# Altium footprint library Sampler_DIOT.PcbLib: 109 footprints (part 3 of 7)
Each footprint in its own frame and in the unit in brackets; x right, y up, seen from the top. Pads: shape width x height; smd on the part's side, far side on the other; paste and mask are expansions set on the pad; w line width, h text height; cw(c..) or ccw(c..) is an arc to the next point about the centre after c.
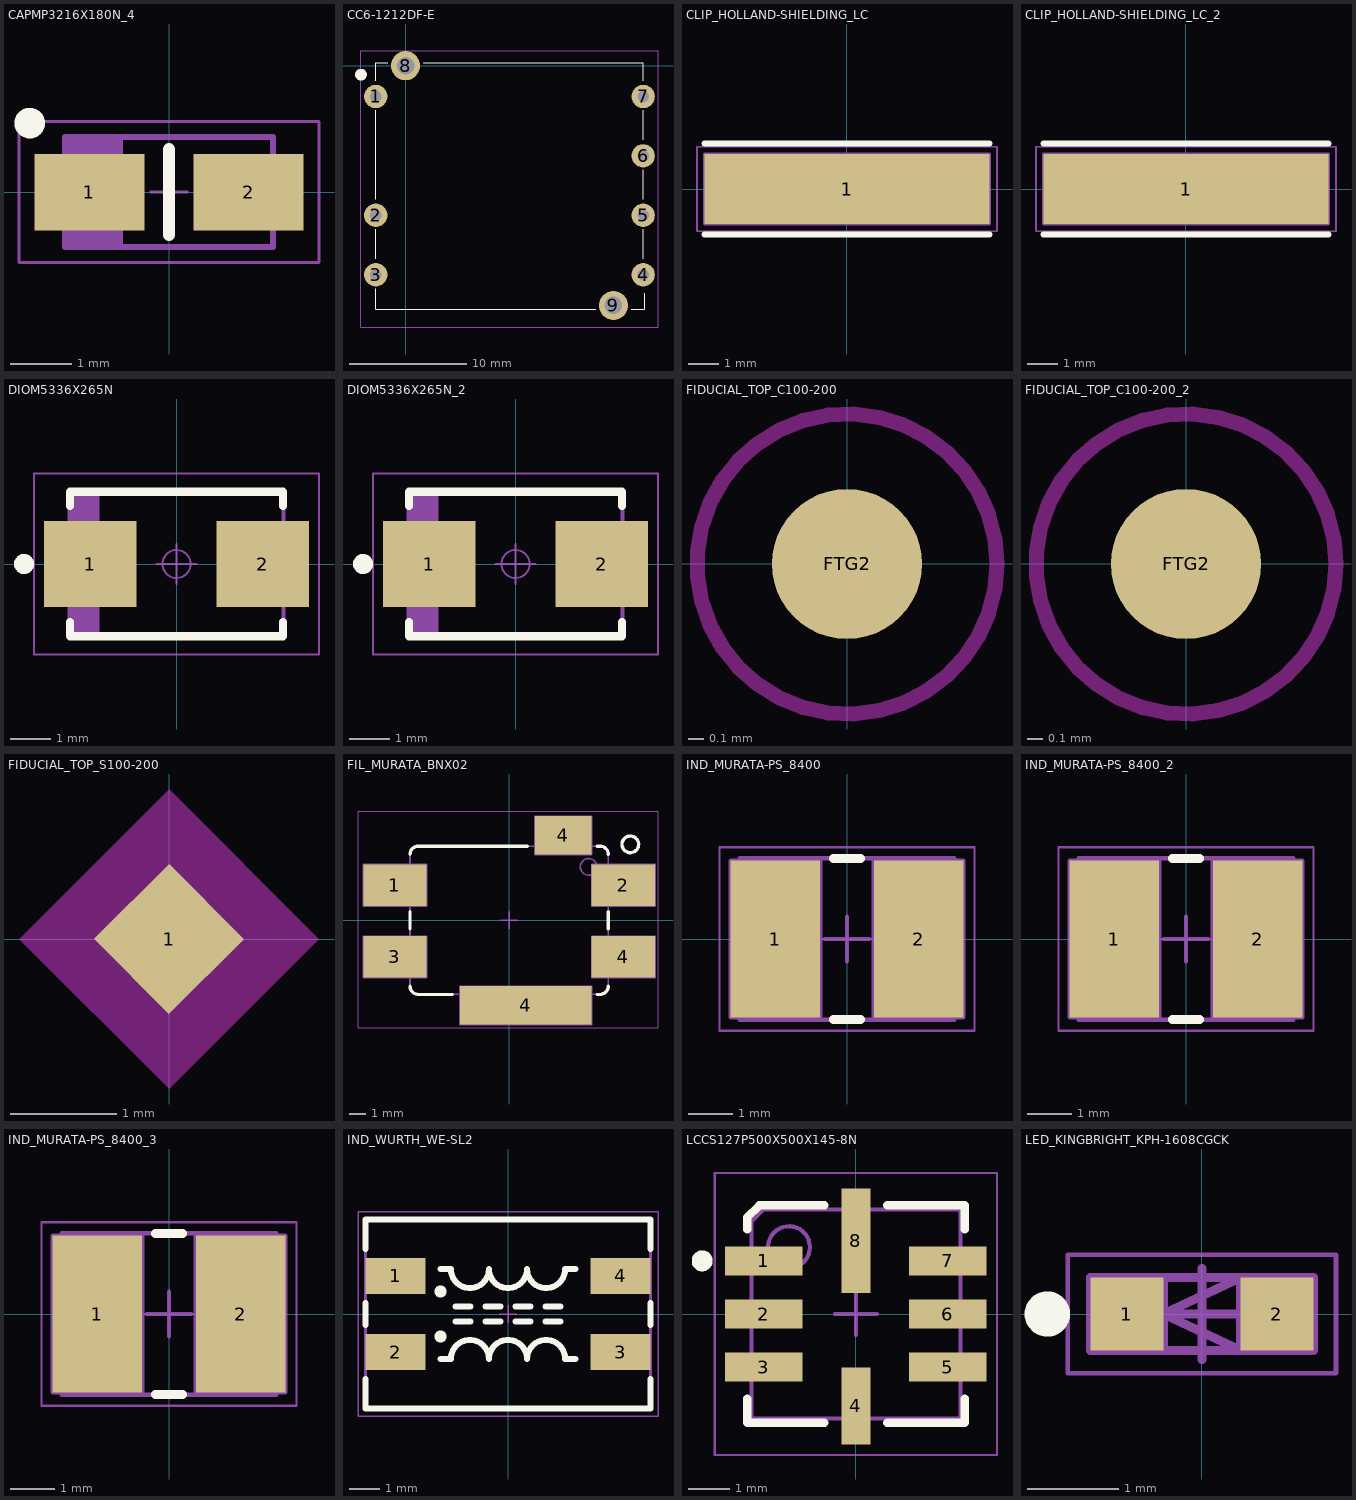
[diagram p2: the footprints below, top view; thin cyan lines are the x and y axes]

## CAPMP3216X180N_4 [mm]
pads (2):
  rect 1.8x1.25 smd: 1(-1.3,0) 2(1.3,0)
Top Overlay:
  circle w0.25: c-2.275,1.125 r0.125
  lines w0.2: 0,-0.7 0,0.7
Top Assembly:
  lines w0.1: -1.625,-0.9 -1.625,0.9 ; -1.55,-0.9 -1.55,0.9 ; -1.475,-0.9 -1.475,0.9 ; -1.4,-0.9 -1.4,0.9 ; -1.325,-0.9 -1.325,0.9 ; -1.25,-0.9 -1.25,0.9 ; -1.175,-0.9 -1.175,0.9 ; -1.1,-0.9 -1.1,0.9 ; -1.025,-0.9 -1.025,0.9 ; -0.95,-0.9 -0.95,0.9 ; -0.875,-0.9 -0.875,0.9 ; -0.8,-0.9 -0.8,0.9 ; -1.7,-0.9 1.7,-0.9 1.7,0.9 -1.7,0.9 -1.7,-0.9
Top Courtyard:
  lines w0.05: -0.3,0 0.3,0 ; 0,-0.3 0,0.3 ; -2.45,-1.15 -2.45,1.15 2.45,1.15 2.45,-1.15 -2.45,-1.15
3D body "CAPMP3216X180N.stp": height 1.6, standoff 0, extent -1.7,-0.9 1.7,0.9

## CC6-1212DF-E [mm]
pads (9):
  round 2 hole 1: 1(-2.54,-2.63) 2(-2.54,-12.79) 3(-2.54,-17.87) 4(20.32,-17.87) 5(20.32,-12.79) 6(20.32,-7.71) 7(20.32,-2.63)
  round 2.5 hole 1.5: 8(0,0) 9(17.78,-20.5)
Top Overlay:
  circle w0.5: c-3.81,-0.762 r0.254
  lines w0.1: -2.54,-19.05 -2.54,-20.32 -2.54,-20.574 -2.54,-20.828 16.256,-20.828 ; -2.54,-16.51 -2.54,-13.97 ; -2.54,-11.43 -2.54,-3.81 ; -2.54,-1.27 -2.54,0.254 -1.524,0.254 ; 1.524,0.254 20.32,0.254 20.32,0 20.32,-1.27 ; 19.304,-20.828 20.426,-20.828 ; 20.32,-16.51 20.32,-13.97 ; 20.32,-11.43 20.32,-8.89 ; 20.32,-6.35 20.32,-3.81 ; 20.442,-20.812 20.442,-19.436
Top Courtyard:
  lines w0.1: -3.81,-22.352 -3.81,1.27 21.59,1.27 21.59,-22.352 -3.81,-22.352
3D body "cc6f.stp": height 8.4, standoff -3.5, extent -2.718,-20.812 20.442,0.288

## CLIP_HOLLAND-SHIELDING_LC [mm]
pads (1):
  rect 9.4x2.3 smd: 1(0,0)
Top Overlay:
  lines w0.2: -4.7,-1.5 4.7,-1.5 ; -4.7,1.5 4.7,1.5
Mechanical 8:
  lines w0.1: -0.5,0 0,0 ; 0,-0.5 0,0 ; 0,0.5 0,0 ; 0.5,0 0,0 ; -4.7,-1.15 4.7,-1.15 4.7,1.15 -4.7,1.15 -4.7,-1.15
Top Assembly:
  lines w0.1: -4.4,-0.243 -1.8,-0.243 -1.8,-1.15 -4.4,-1.15 -4.4,1.15 -1.8,1.15 -1.8,0.243 -4.4,0.243 ; -3.667,-0.243 cw(c-3.35,0) -3.667,0.243 ; -2.032,-0.243 ccw(c-2.35,0) -2.032,0.243 ; -1.8,-0.85 cw(c-1.65,-0.85) -1.5,-0.85 -1.5,-1.15 1.5,-1.15 1.5,-0.85 cw(c1.65,-0.85) 1.8,-0.852 ; -1.8,0.852 ccw(c-1.65,0.85) -1.5,0.85 -1.5,1.15 1.5,1.15 1.5,0.85 ccw(c1.65,0.85) 1.8,0.85 ; 2.033,-0.243 cw(c2.35,0) 2.033,0.243 ; 3.668,-0.243 ccw(c3.35,0) 3.668,0.243 ; 4.4,-0.243 1.8,-0.243 1.8,-1.15 4.4,-1.15 4.4,1.15 1.8,1.15 1.8,0.243 4.4,0.243
Top Courtyard:
  lines w0.05: -4.95,-1.4 -4.95,1.4 4.95,1.4 4.95,-1.4 -4.95,-1.4
3D body "CLIP_HOLLAND-SHIELDING_LC.stp": height 3.5, standoff 0, extent -4.4,-1.15 4.4,1.15

## CLIP_HOLLAND-SHIELDING_LC_2 [mm]
pads (1):
  rect 9.4x2.3 smd: 1(0,0)
Top Overlay:
  lines w0.2: -4.7,-1.5 4.7,-1.5 ; -4.7,1.5 4.7,1.5
Mechanical 8:
  lines w0.1: -0.5,0 0,0 ; 0,-0.5 0,0 ; 0,0.5 0,0 ; 0.5,0 0,0 ; -4.7,-1.15 4.7,-1.15 4.7,1.15 -4.7,1.15 -4.7,-1.15
Top Assembly:
  lines w0.1: -4.4,-0.243 -1.8,-0.243 -1.8,-1.15 -4.4,-1.15 -4.4,1.15 -1.8,1.15 -1.8,0.243 -4.4,0.243 ; -3.667,-0.243 cw(c-3.35,0) -3.667,0.243 ; -2.032,-0.243 ccw(c-2.35,0) -2.032,0.243 ; -1.8,-0.85 cw(c-1.65,-0.85) -1.5,-0.85 -1.5,-1.15 1.5,-1.15 1.5,-0.85 cw(c1.65,-0.85) 1.8,-0.852 ; -1.8,0.852 ccw(c-1.65,0.85) -1.5,0.85 -1.5,1.15 1.5,1.15 1.5,0.85 ccw(c1.65,0.85) 1.8,0.85 ; 2.033,-0.243 cw(c2.35,0) 2.033,0.243 ; 3.668,-0.243 ccw(c3.35,0) 3.668,0.243 ; 4.4,-0.243 1.8,-0.243 1.8,-1.15 4.4,-1.15 4.4,1.15 1.8,1.15 1.8,0.243 4.4,0.243
Top Courtyard:
  lines w0.05: -4.95,-1.4 -4.95,1.4 4.95,1.4 4.95,-1.4 -4.95,-1.4
3D body "CLIP_HOLLAND-SHIELDING_LC.stp": height 3.5, standoff 0, extent -4.4,-1.15 4.4,1.15

## DIOM5336X265N [mm]
pads (2):
  rect 2.3x2.15 smd: 1(-2.15,0) 2(2.15,0)
Top Overlay:
  circle w0.25: c-3.8,0 r0.125
  lines w0.2: -2.65,-1.45 -2.65,-1.8 2.65,-1.8 2.65,-1.45 ; -2.65,1.45 -2.65,1.8 2.65,1.8 2.65,1.45
Top Assembly:
  lines w0.1: -2.57,-1.812 -2.57,1.812 ; -2.47,-1.812 -2.47,1.812 ; -2.37,-1.812 -2.37,1.812 ; -2.27,-1.812 -2.27,1.812 ; -2.17,-1.812 -2.17,1.812 ; -2.07,-1.812 -2.07,1.812 ; -1.97,-1.812 -1.97,1.812 ; -2.67,-1.812 2.67,-1.812 2.67,1.812 -2.67,1.812 -2.67,-1.812
Top Courtyard:
  circle w0.05: c0,0 r0.35
  lines w0.05: -0.5,0 0.5,0 ; 0,-0.5 0,0.5 ; -3.55,-2.25 3.55,-2.25 3.55,2.25 -3.55,2.25 -3.55,-2.25
3D body "DIOM5336X240N.stp": height 2.4, standoff 0, extent -2.7,-1.95 2.7,1.95

## DIOM5336X265N_2 [mm]
pads (2):
  rect 2.3x2.15 smd: 1(-2.15,0) 2(2.15,0)
Top Overlay:
  circle w0.25: c-3.8,0 r0.125
  lines w0.2: -2.65,-1.45 -2.65,-1.8 2.65,-1.8 2.65,-1.45 ; -2.65,1.45 -2.65,1.8 2.65,1.8 2.65,1.45
Top Assembly:
  lines w0.1: -2.57,-1.812 -2.57,1.812 ; -2.47,-1.812 -2.47,1.812 ; -2.37,-1.812 -2.37,1.812 ; -2.27,-1.812 -2.27,1.812 ; -2.17,-1.812 -2.17,1.812 ; -2.07,-1.812 -2.07,1.812 ; -1.97,-1.812 -1.97,1.812 ; -2.67,-1.812 -2.67,1.812 2.67,1.812 2.67,-1.812 -2.67,-1.812
Top Courtyard:
  circle w0.05: c0,0 r0.35
  lines w0.05: -0.5,0 0.5,0 ; 0,-0.5 0,0.5 ; -3.55,-2.25 -3.55,2.25 3.55,2.25 3.55,-2.25 -3.55,-2.25
3D body "DIOM5336X240N.stp": height 2.4, standoff 0, extent -2.7,-1.95 2.7,1.95

## FIDUCIAL_TOP_C100-200 [mm]
pads (1):
  round 1 smd paste-0.51 mask+0.5: FTG2(0,0)
Top Layer keep-out:
  circle w0.1: c0,0 r1

## FIDUCIAL_TOP_C100-200_2 [mm]
pads (1):
  round 1 smd paste-0.51 mask+0.5: FTG2(0,0)
Top Layer keep-out:
  circle w0.1: c0,0 r1

## FIDUCIAL_TOP_S100-200 [mm]
pads (1):
  rect 1x1 smd rot 45 paste-0.51 mask+0.5: 1(0,0)
Top Layer keep-out:
  region: 1.414,0 0,-1.414 -1.414,0 0,1.414

## FIL_MURATA_BNX02 [mm]
pads (6):
  rect 3.8x2.5 smd: 1(-6.85,2.1) 2(6.85,2.1) 3(-6.85,-2.2) 4(6.85,-2.2)
  rect 7.9x2.3 smd: 4(1,-5.1)
  rect 3.4x2.3 smd: 4(3.25,5.1)
Top Overlay:
  circle w0.2: c7.268,4.554 r0.5
  lines w0.2: -5.95,-3.95 ccw(c-5.45,-3.95) -5.45,-4.45 -3.42,-4.45 ; -5.95,-0.5 -5.95,0.5 ; -5.95,3.95 cw(c-5.45,3.95) -5.45,4.45 1.08,4.45 ; 5.28,-4.45 5.45,-4.45 ccw(c5.45,-3.95) 5.95,-3.95 ; 5.28,4.45 5.45,4.45 cw(c5.45,3.95) 5.95,3.95 ; 5.95,-0.5 5.95,0.5
Mechanical 8:
  lines w0.1: -7.35,-2.2 -6.85,-2.2 ; -7.35,2.1 -6.85,2.1 ; -6.85,-2.7 -6.85,-2.2 ; -6.85,-1.7 -6.85,-2.2 ; -6.85,1.6 -6.85,2.1 ; -6.85,2.6 -6.85,2.1 ; -6.35,-2.2 -6.85,-2.2 ; -6.35,2.1 -6.85,2.1 ; -0.5,0 0,0 ; 0,-0.5 0,0 ; 0,0.5 0,0 ; 0.5,-5.1 1,-5.1 ; 0.5,0 0,0 ; 1,-5.6 1,-5.1 ; 1,-4.6 1,-5.1 ; 1.5,-5.1 1,-5.1 ; 2.75,5.1 3.25,5.1 ; 3.25,4.6 3.25,5.1 ; 3.25,5.6 3.25,5.1 ; 3.75,5.1 3.25,5.1 ; 6.35,-2.2 6.85,-2.2 ; 6.35,2.1 6.85,2.1 ; 6.85,-2.7 6.85,-2.2 ; 6.85,-1.7 6.85,-2.2 ; 6.85,1.6 6.85,2.1 ; 6.85,2.6 6.85,2.1 ; 7.35,-2.2 6.85,-2.2 ; 7.35,2.1 6.85,2.1 ; -8.75,-3.45 -4.95,-3.45 -4.95,-0.95 -8.75,-0.95 -8.75,-3.45 ; -8.75,0.85 -8.75,3.35 -4.95,3.35 -4.95,0.85 -8.75,0.85 ; -2.95,-6.25 4.95,-6.25 4.95,-3.95 -2.95,-3.95 -2.95,-6.25 ; 1.55,3.95 1.55,6.25 4.95,6.25 4.95,3.95 1.55,3.95 ; 4.95,-3.45 4.95,-0.95 8.75,-0.95 8.75,-3.45 4.95,-3.45 ; 4.95,0.85 8.75,0.85 8.75,3.35 4.95,3.35 4.95,0.85
Top Assembly:
  circle w0.1: c4.768,3.204 r0.5
  lines w0.1: -5.95,-2.75 -6.05,-2.75 -6.05,-1.45 -5.95,-1.45 ; -5.95,1.45 -6.05,1.45 -6.05,2.75 -5.95,2.75 ; -2.5,-4.45 -2.5,-4.55 4.5,-4.55 4.5,-4.45 ; 2,4.45 2,4.55 4.5,4.55 4.5,4.45 ; 5.95,-2.75 6.05,-2.75 6.05,-1.45 5.95,-1.45 ; 5.95,1.45 6.05,1.45 6.05,2.75 5.95,2.75 ; -5.95,-3.95 ccw(c-5.45,-3.95) -5.45,-4.45 5.45,-4.45 ccw(c5.45,-3.95) 5.95,-3.95 5.95,3.95 ccw(c5.45,3.95) 5.45,4.45 -5.45,4.45 ccw(c-5.45,3.95) -5.95,3.95 -5.95,-3.95
Top Courtyard:
  lines w0.05: -9.07,-6.45 -9.07,6.55 8.93,6.55 8.93,-6.45 -9.07,-6.45
3D body "FIL_MURATA_BNX02.stp": height 3.1, standoff 0, extent -6.05,-4.55 6.05,4.55

## IND_MURATA-PS_8400 [mm]
pads (2):
  rect 2x3.5 smd: 1(-1.6,0) 2(1.6,0)
Top Overlay:
  lines w0.2: -0.3,-1.8 0.3,-1.8 ; -0.3,1.8 0.3,1.8
Mechanical 8:
  lines w0.1: -2.1,0 -1.6,0 ; -1.6,-0.5 -1.6,0 ; -1.6,0.5 -1.6,0 ; -1.1,0 -1.6,0 ; -0.5,0 0,0 ; 0,-0.5 0,0 ; 0,0.5 0,0 ; 0.5,0 0,0 ; 1.1,0 1.6,0 ; 1.6,-0.5 1.6,0 ; 1.6,0.5 1.6,0 ; 2.1,0 1.6,0 ; -2.6,-1.75 -0.6,-1.75 -0.6,1.75 -2.6,1.75 -2.6,-1.75 ; 0.6,-1.75 2.6,-1.75 2.6,1.75 0.6,1.75 0.6,-1.75
Top Assembly:
  lines w0.1: -1.8,-1.8 -1.8,1.8 ; 1.8,-1.8 1.8,1.8 ; -2.4,-1.8 -2.4,1.8 2.4,1.8 2.4,-1.8 -2.4,-1.8
Top Courtyard:
  lines w0.05: -2.85,-2.05 2.85,-2.05 2.85,2.05 -2.85,2.05 -2.85,-2.05
3D body "IND_MURATA-PS_8400.stp": height 2.9, standoff 0, extent -2.4,-1.8 2.4,1.8

## IND_MURATA-PS_8400_2 [mm]
pads (2):
  rect 2x3.5 smd: 1(-1.6,0) 2(1.6,0)
Top Overlay:
  lines w0.2: -0.3,-1.8 0.3,-1.8 ; -0.3,1.8 0.3,1.8
Mechanical 8:
  lines w0.1: -2.1,0 -1.6,0 ; -1.6,-0.5 -1.6,0 ; -1.6,0.5 -1.6,0 ; -1.1,0 -1.6,0 ; -0.5,0 0,0 ; 0,-0.5 0,0 ; 0,0.5 0,0 ; 0.5,0 0,0 ; 1.1,0 1.6,0 ; 1.6,-0.5 1.6,0 ; 1.6,0.5 1.6,0 ; 2.1,0 1.6,0 ; -2.6,-1.75 -0.6,-1.75 -0.6,1.75 -2.6,1.75 -2.6,-1.75 ; 0.6,-1.75 2.6,-1.75 2.6,1.75 0.6,1.75 0.6,-1.75
Top Assembly:
  lines w0.1: -1.8,-1.8 -1.8,1.8 ; 1.8,-1.8 1.8,1.8 ; -2.4,-1.8 -2.4,1.8 2.4,1.8 2.4,-1.8 -2.4,-1.8
Top Courtyard:
  lines w0.05: -2.85,-2.05 2.85,-2.05 2.85,2.05 -2.85,2.05 -2.85,-2.05
3D body "IND_MURATA-PS_8400.stp": height 2.9, standoff 0, extent -2.4,-1.8 2.4,1.8

## IND_MURATA-PS_8400_3 [mm]
pads (2):
  rect 2x3.5 smd: 1(-1.6,0) 2(1.6,0)
Top Overlay:
  lines w0.2: -0.3,-1.8 0.3,-1.8 ; -0.3,1.8 0.3,1.8
Mechanical 8:
  lines w0.1: -2.1,0 -1.6,0 ; -1.6,-0.5 -1.6,0 ; -1.6,0.5 -1.6,0 ; -1.1,0 -1.6,0 ; -0.5,0 0,0 ; 0,-0.5 0,0 ; 0,0.5 0,0 ; 0.5,0 0,0 ; 1.1,0 1.6,0 ; 1.6,-0.5 1.6,0 ; 1.6,0.5 1.6,0 ; 2.1,0 1.6,0 ; -2.6,-1.75 -0.6,-1.75 -0.6,1.75 -2.6,1.75 -2.6,-1.75 ; 0.6,-1.75 2.6,-1.75 2.6,1.75 0.6,1.75 0.6,-1.75
Top Assembly:
  lines w0.1: -1.8,-1.8 -1.8,1.8 ; 1.8,-1.8 1.8,1.8 ; -2.4,-1.8 -2.4,1.8 2.4,1.8 2.4,-1.8 -2.4,-1.8
Top Courtyard:
  lines w0.05: -2.85,-2.05 2.85,-2.05 2.85,2.05 -2.85,2.05 -2.85,-2.05
3D body "IND_MURATA-PS_8400.stp": height 2.9, standoff 0, extent -2.4,-1.8 2.4,1.8

## IND_WURTH_WE-SL2 [mm]
pads (4):
  rect 2x1.2 smd: 1(-3.75,1.27) 2(-3.75,-1.27) 3(3.75,-1.27) 4(3.75,1.27)
Top Overlay:
  circle w0.2: c-2.25,-0.75 r0.1
  circle w0.2: c-2.25,0.75 r0.1
  lines w0.2: -4.75,-2.175 -4.75,-3.15 4.75,-3.15 4.75,-2.175 ; -4.75,-0.365 -4.75,0.365 ; -4.75,2.175 -4.75,3.15 4.75,3.15 4.75,2.175 ; -2.25,-1.5 -1.905,-1.5 cw(c-1.27,-1.5) -0.635,-1.5 cw(c0,-1.5) 0.635,-1.5 cw(c1.27,-1.5) 1.905,-1.5 2.25,-1.5 ; -2.25,1.5 -1.905,1.5 ccw(c-1.27,1.5) -0.635,1.5 ccw(c0,1.5) 0.635,1.5 ccw(c1.27,1.5) 1.905,1.5 2.25,1.5 ; -1.75,-0.25 -1.25,-0.25 ; -1.75,0.25 -1.25,0.25 ; -0.75,-0.25 -0.25,-0.25 ; -0.75,0.25 -0.25,0.25 ; 0.25,-0.25 0.75,-0.25 ; 0.25,0.25 0.75,0.25 ; 1.25,-0.25 1.75,-0.25 ; 1.25,0.25 1.75,0.25 ; 4.75,-0.365 4.75,0.365
Mechanical 8:
  lines w0.05: -0.3,0 0.3,0 ; 0,-0.3 0,0.3
Top Assembly:
  circle w0.1: c-2.25,-0.75 r0.1
  circle w0.1: c-2.25,0.75 r0.1
  lines w0.1: -2.25,-1.5 -1.905,-1.5 cw(c-1.27,-1.5) -0.635,-1.5 cw(c0,-1.5) 0.635,-1.5 cw(c1.27,-1.5) 1.905,-1.5 2.25,-1.5 ; -2.25,1.5 -1.905,1.5 ccw(c-1.27,1.5) -0.635,1.5 ccw(c0,1.5) 0.635,1.5 ccw(c1.27,1.5) 1.905,1.5 2.25,1.5 ; -1.75,-0.25 -1.25,-0.25 ; -1.75,0.25 -1.25,0.25 ; -0.75,-0.25 -0.25,-0.25 ; -0.75,0.25 -0.25,0.25 ; 0.25,-0.25 0.75,-0.25 ; 0.25,0.25 0.75,0.25 ; 1.25,-0.25 1.75,-0.25 ; 1.25,0.25 1.75,0.25 ; -4.75,-3.15 -4.75,3.15 4.75,3.15 4.75,-3.15 -4.75,-3.15
Top Courtyard:
  lines w0.05: -5,-3.4 -5,3.4 5,3.4 5,-3.4 -5,-3.4
3D body "IND_WURTH_WE-SL2.stp": height 5.3, standoff 0, extent -4.749,-3.149 4.751,3.151

## LCCS127P500X500X145-8N [mm]
pads (8):
  rect 1.85x0.7 smd: 1(-2.2,1.27) 2(-2.2,0) 3(-2.2,-1.27) 5(2.2,-1.27) 6(2.2,0) 7(2.2,1.27)
  rect 0.7x1.85 smd: 4(0,-2.2)
  rect 0.7x2.5 smd: 8(0,1.75)
Top Overlay:
  circle w0.25: c-3.675,1.27 r0.125
  lines w0.2: -2.6,-2.02 -2.6,-2.6 -0.75,-2.6 ; -2.6,2.02 -2.6,2.31 -2.31,2.6 -0.75,2.6 ; 0.75,-2.6 2.6,-2.6 2.6,-2.02 ; 0.75,2.6 2.6,2.6 2.6,2.02
Top Assembly:
  circle w0.1: c-1.6,1.6 r0.5
  lines w0.1: -2.5,-2.5 2.5,-2.5 2.5,2.5 -2.21,2.5 -2.5,2.21 -2.5,-2.5
Top Courtyard:
  lines w0.05: -3.375,-3.375 3.375,-3.375 3.375,3.375 -3.375,3.375 -3.375,-3.375
  lines w0.1: -0.5,0 0.5,0 ; 0,-0.5 0,0.5
3D body "LCC-8_LS8_LIT.step": height 1.55, standoff 0, extent -2.629,-2.629 2.629,2.629

## LED_KINGBRIGHT_KPH-1608CGCK [mm]
pads (2):
  rect 0.8x0.8 smd: 1(-0.825,0) 2(0.825,0)
Top Overlay:
  circle w0.25: c-1.7,0 r0.125
Mechanical 8:
  lines w0.1: -0.5,0 0,0 ; -0.425,0 0.425,0 ; 0,-0.5 0,0 ; 0,0.5 0,0 ; 0.5,0 0,0 ; -0.425,-0.4 -1.225,-0.4 -1.225,0.4 -0.425,0.4 ; -0.425,-0.4 -0.425,0.4 ; -0.425,-0.4 -0.825,0 -0.425,0.4 ; 1.225,-0.4 0.425,-0.4 0.425,0.4 1.225,0.4 ; 1.225,-0.4 1.225,0.4 ; 1.225,-0.4 0.825,0 1.225,0.4
Top Assembly:
  lines w0.1: -0.8,-0.4 -0.8,0.4 0.8,0.4 0.8,-0.4 -0.8,-0.4 ; -0.425,0 0.425,0.4 0.425,-0.4 -0.425,0
Top Courtyard:
  lines w0.05: -1.475,-0.65 -1.475,0.65 1.475,0.65 1.475,-0.65 -1.475,-0.65
3D body "LED_KINGBRIGHT_KPH-1608CGCK_Part1.stp": height 0.2, standoff 0, extent -0.8,-0.4 0.8,0.4
3D body "LED_KINGBRIGHT_KPH-1608CGCK_Part2.stp": height 0.65, standoff 0.12, extent -0.6,-0.4 0.6,0.4